# Altium integrated library National Semiconductor Audio.IntLib: 683 symbols (part 11 of 18)

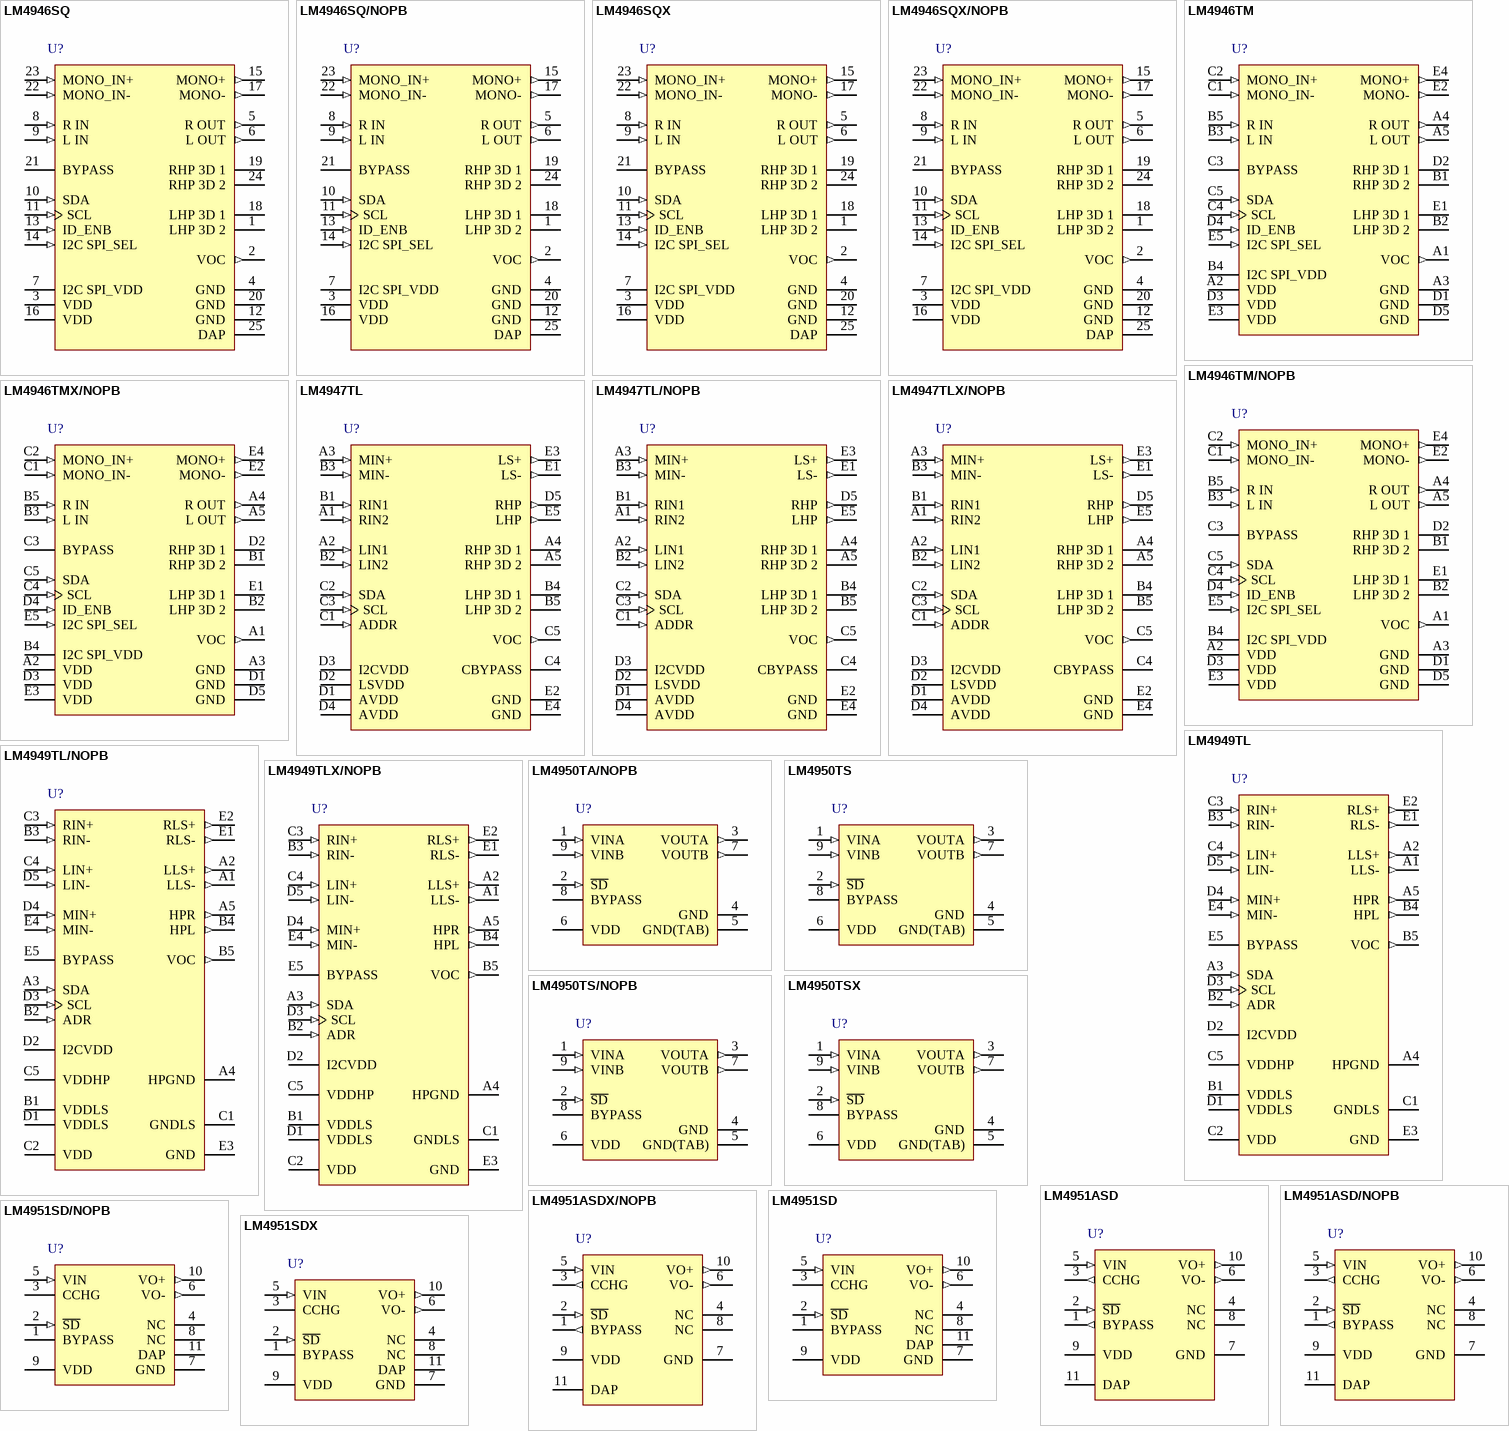
[diagram p15: symbols LM4946SQ to LM4951SDX]

## LM4946SQ
designator U?
Output Capacitor-Less Audio Subsystem with Programmable National 3D, 25-pin LLP; PartNumber: LM4946SQ; Manufacturer: National Semiconductor; PackageTopMarking: NS*UZXYTT*L4946SQ; PowerWise: N; CompType: Audio IC; High-Reliability: Y; DatasheetVersion: Aug-2007; PackageVersion: revB, Aug-2003; PackageReference: SQA24A; PackageDescription: LLP, Plastic, Quad, 4 x 4 x 0.8mm Body, 24 Lead, 0.5mm Pitch, No Pullback; RoHS: N; PinCount: 24; Code_JEDEC: MO-220-WGGD-6; ComponentLink1Description: Manufacturer URL; ComponentLink1URL: http://www.national.com/; ComponentLink2Description: LM4946 Datasheet; ComponentLink2URL: http://www.national.com/ds/LM/LM4946.pdf; ComponentLink3Description: LM4946 Web Page; ComponentLink3URL: http://www.national.com/pf/LM/LM4946.html; ComponentLink4Description: SQA24A Package Page; ComponentLink4URL: http://www.national.com/packaging/folders/sqa24a.html
footprint SQA24A (QFN, 24-Leads, Body 4x4mm, Pitch 0.5mm, Thermal Pad 2.7x2.7mm, NSC Recommended)
pins: 1 LHP 3D 2, 2 VOC (out), 3 VDD (power), 4 GND (power), 5 R OUT (out), 6 L OUT (out), 7 I2C SPI_VDD (power), 8 R IN (in), 9 L IN (in), 10 SDA (in), 11 SCL (in), 12 GND (power), 13 ID_ENB (in), 14 I2C SPI_SEL (in), 15 MONO+ (out), 16 VDD (power), 17 MONO- (out), 18 LHP 3D 1, 19 RHP 3D 1, 20 GND (power), 21 BYPASS, 22 MONO_IN- (in), 23 MONO_IN+ (in), 24 RHP 3D 2, 25 DAP (power)

## LM4946SQ/NOPB
designator U?
Output Capacitor-Less Audio Subsystem with Programmable National 3D, 24-pin LLP, Pb-Free; PartNumber: LM4946SQ/NOPB; Manufacturer: National Semiconductor; PackageTopMarking: NS*UZXYTT*L4946SQ; PowerWise: N; CompType: Audio IC; High-Reliability: Y; DatasheetVersion: Aug-2007; PackageVersion: revB, Aug-2003; PackageReference: SQA24A; PackageDescription: LLP, Plastic, Quad, 4 x 4 x 0.8mm Body, 24 Lead, 0.5mm Pitch, No Pullback; RoHS: Y; PinCount: 24; Code_JEDEC: MO-220-WGGD-6; ComponentLink1Description: Manufacturer URL; ComponentLink1URL: http://www.national.com/; ComponentLink2Description: LM4946 Datasheet; ComponentLink2URL: http://www.national.com/ds/LM/LM4946.pdf; ComponentLink3Description: LM4946 Web Page; ComponentLink3URL: http://www.national.com/pf/LM/LM4946.html; ComponentLink4Description: SQA24A Package Page; ComponentLink4URL: http://www.national.com/packaging/folders/sqa24a.html
footprint SQA24A (QFN, 24-Leads, Body 4x4mm, Pitch 0.5mm, Thermal Pad 2.7x2.7mm, NSC Recommended)
pins: 1 LHP 3D 2, 2 VOC (out), 3 VDD (power), 4 GND (power), 5 R OUT (out), 6 L OUT (out), 7 I2C SPI_VDD (power), 8 R IN (in), 9 L IN (in), 10 SDA (in), 11 SCL (in), 12 GND (power), 13 ID_ENB (in), 14 I2C SPI_SEL (in), 15 MONO+ (out), 16 VDD (power), 17 MONO- (out), 18 LHP 3D 1, 19 RHP 3D 1, 20 GND (power), 21 BYPASS, 22 MONO_IN- (in), 23 MONO_IN+ (in), 24 RHP 3D 2, 25 DAP (power)

## LM4946SQX
designator U?
Output Capacitor-Less Audio Subsystem with Programmable National 3D, 24-pin LLP; PartNumber: LM4946SQX; Manufacturer: National Semiconductor; PackageTopMarking: NS*UZXYTT*L4946SQ; PowerWise: N; CompType: Audio IC; High-Reliability: Y; DatasheetVersion: Aug-2007; PackageVersion: revB, Aug-2003; PackageReference: SQA24A; PackageDescription: LLP, Plastic, Quad, 4 x 4 x 0.8mm Body, 24 Lead, 0.5mm Pitch, No Pullback; RoHS: N; PinCount: 24; Code_JEDEC: MO-220-WGGD-6; ComponentLink1Description: Manufacturer URL; ComponentLink1URL: http://www.national.com/; ComponentLink2Description: LM4946 Datasheet; ComponentLink2URL: http://www.national.com/ds/LM/LM4946.pdf; ComponentLink3Description: LM4946 Web Page; ComponentLink3URL: http://www.national.com/pf/LM/LM4946.html; ComponentLink4Description: SQA24A Package Page; ComponentLink4URL: http://www.national.com/packaging/folders/sqa24a.html
footprint SQA24A (QFN, 24-Leads, Body 4x4mm, Pitch 0.5mm, Thermal Pad 2.7x2.7mm, NSC Recommended)
pins: 1 LHP 3D 2, 2 VOC (out), 3 VDD (power), 4 GND (power), 5 R OUT (out), 6 L OUT (out), 7 I2C SPI_VDD (power), 8 R IN (in), 9 L IN (in), 10 SDA (in), 11 SCL (in), 12 GND (power), 13 ID_ENB (in), 14 I2C SPI_SEL (in), 15 MONO+ (out), 16 VDD (power), 17 MONO- (out), 18 LHP 3D 1, 19 RHP 3D 1, 20 GND (power), 21 BYPASS, 22 MONO_IN- (in), 23 MONO_IN+ (in), 24 RHP 3D 2, 25 DAP (power)

## LM4946SQX/NOPB
designator U?
Output Capacitor-Less Audio Subsystem with Programmable National 3D, 24-pin LLP, Pb-Free; PartNumber: LM4946SQX/NOPB; Manufacturer: National Semiconductor; PackageTopMarking: NS*UZXYTT*L4946SQ; PowerWise: N; CompType: Audio IC; High-Reliability: Y; DatasheetVersion: Aug-2007; PackageVersion: revB, Aug-2003; PackageReference: SQA24A; PackageDescription: LLP, Plastic, Quad, 4 x 4 x 0.8mm Body, 24 Lead, 0.5mm Pitch, No Pullback; RoHS: Y; PinCount: 24; Code_JEDEC: MO-220-WGGD-6; ComponentLink1Description: Manufacturer URL; ComponentLink1URL: http://www.national.com/; ComponentLink2Description: LM4946 Datasheet; ComponentLink2URL: http://www.national.com/ds/LM/LM4946.pdf; ComponentLink3Description: LM4946 Web Page; ComponentLink3URL: http://www.national.com/pf/LM/LM4946.html; ComponentLink4Description: SQA24A Package Page; ComponentLink4URL: http://www.national.com/packaging/folders/sqa24a.html
footprint SQA24A (QFN, 24-Leads, Body 4x4mm, Pitch 0.5mm, Thermal Pad 2.7x2.7mm, NSC Recommended)
pins: 1 LHP 3D 2, 2 VOC (out), 3 VDD (power), 4 GND (power), 5 R OUT (out), 6 L OUT (out), 7 I2C SPI_VDD (power), 8 R IN (in), 9 L IN (in), 10 SDA (in), 11 SCL (in), 12 GND (power), 13 ID_ENB (in), 14 I2C SPI_SEL (in), 15 MONO+ (out), 16 VDD (power), 17 MONO- (out), 18 LHP 3D 1, 19 RHP 3D 1, 20 GND (power), 21 BYPASS, 22 MONO_IN- (in), 23 MONO_IN+ (in), 24 RHP 3D 2, 25 DAP (power)

## LM4946TM
designator U?
Output Capacitor-Less Audio Subsystem with Programmable National 3D, 25-pin Micro SMD; PartNumber: LM4946TM; Manufacturer: National Semiconductor; PackageTopMarking: XYTT*I GI9; PowerWise: N; CompType: Audio IC; High-Reliability: Y; DatasheetVersion: Aug-2007; PackageVersion: revC, 2007; PackageReference: TMD25ABA; PackageDescription: Thin Micro SMD, 25 Bump, 0.4mm Pitch; RoHS: Y; PinCount: 25; ComponentLink1Description: Manufacturer URL; ComponentLink1URL: http://www.national.com/; ComponentLink2Description: LM4946 Datasheet; ComponentLink2URL: http://www.national.com/ds/LM/LM4946.pdf; ComponentLink3Description: LM4946 Web Page; ComponentLink3URL: http://www.national.com/pf/LM/LM4946.html
footprint TMD25ABA (Micro SMD, 25-Leads, Body 2.05x2.02mm, Pitch 0.4mm, NSC Recommended)
pins: A1 VOC (out), A2 VDD (power), A3 GND (power), A4 R OUT (out), A5 L OUT (out), B1 RHP 3D 2, B2 LHP 3D 2, B3 L IN (in), B4 I2C SPI_VDD (power), B5 R IN (in), C1 MONO_IN- (in), C2 MONO_IN+ (in), C3 BYPASS, C4 SCL (in), C5 SDA (in), D1 GND (power), D2 RHP 3D 1, D3 VDD (power), D4 ID_ENB (in), D5 GND (power), E1 LHP 3D 1, E2 MONO- (out), E3 VDD (power), E4 MONO+ (out), E5 I2C SPI_SEL (in)

## LM4946TM/NOPB
designator U?
Output Capacitor-Less Audio Subsystem with Programmable National 3D, 25-pin Micro SMD, Pb-Free; PartNumber: LM4946TM/NOPB; Manufacturer: National Semiconductor; PackageTopMarking: XYTT*I GI9; PowerWise: N; CompType: Audio IC; High-Reliability: Y; DatasheetVersion: Aug-2007; PackageVersion: revC, 2007; PackageReference: TMD25ABA; PackageDescription: Thin Micro SMD, 25 Bump, 0.4mm Pitch; RoHS: Y; PinCount: 25; ComponentLink1Description: Manufacturer URL; ComponentLink1URL: http://www.national.com/; ComponentLink2Description: LM4946 Datasheet; ComponentLink2URL: http://www.national.com/ds/LM/LM4946.pdf; ComponentLink3Description: LM4946 Web Page; ComponentLink3URL: http://www.national.com/pf/LM/LM4946.html; ComponentLink4Description: TMD25ABA Package Page; ComponentLink4URL: http://www.national.com/packaging/folders/tmd25aba.html
footprint TMD25ABA (Micro SMD, 25-Leads, Body 2.05x2.02mm, Pitch 0.4mm, NSC Recommended)
pins: A1 VOC (out), A2 VDD (power), A3 GND (power), A4 R OUT (out), A5 L OUT (out), B1 RHP 3D 2, B2 LHP 3D 2, B3 L IN (in), B4 I2C SPI_VDD (power), B5 R IN (in), C1 MONO_IN- (in), C2 MONO_IN+ (in), C3 BYPASS, C4 SCL (in), C5 SDA (in), D1 GND (power), D2 RHP 3D 1, D3 VDD (power), D4 ID_ENB (in), D5 GND (power), E1 LHP 3D 1, E2 MONO- (out), E3 VDD (power), E4 MONO+ (out), E5 I2C SPI_SEL (in)

## LM4946TMX/NOPB
designator U?
Output Capacitor-Less Audio Subsystem with Programmable National 3D, 25-pin Micro SMD, Pb-Free; PartNumber: LM4946TMX/NOPB; Manufacturer: National Semiconductor; PackageTopMarking: XYTT*I GI9; PowerWise: N; CompType: Audio IC; High-Reliability: Y; DatasheetVersion: Aug-2007; PackageVersion: revC, 2007; PackageReference: TMD25ABA; PackageDescription: Thin Micro SMD, 25 Bump, 0.4mm Pitch; RoHS: Y; PinCount: 25; ComponentLink1Description: Manufacturer URL; ComponentLink1URL: http://www.national.com/; ComponentLink2Description: LM4946 Datasheet; ComponentLink2URL: http://www.national.com/ds/LM/LM4946.pdf; ComponentLink3Description: LM4946 Web Page; ComponentLink3URL: http://www.national.com/pf/LM/LM4946.html; ComponentLink4Description: TMD25ABA Package Page; ComponentLink4URL: http://www.national.com/packaging/folders/tmd25aba.html
footprint TMD25ABA (Micro SMD, 25-Leads, Body 2.05x2.02mm, Pitch 0.4mm, NSC Recommended)
pins: A1 VOC (out), A2 VDD (power), A3 GND (power), A4 R OUT (out), A5 L OUT (out), B1 RHP 3D 2, B2 LHP 3D 2, B3 L IN (in), B4 I2C SPI_VDD (power), B5 R IN (in), C1 MONO_IN- (in), C2 MONO_IN+ (in), C3 BYPASS, C4 SCL (in), C5 SDA (in), D1 GND (power), D2 RHP 3D 1, D3 VDD (power), D4 ID_ENB (in), D5 GND (power), E1 LHP 3D 1, E2 MONO- (out), E3 VDD (power), E4 MONO+ (out), E5 I2C SPI_SEL (in)

## LM4947TL
designator U?
Mono Class D and Stereo Audio Sub-System with OCL Headphone Amplifier and National 3D, 25-pin Micro SMD; PartNumber: LM4947TL; Manufacturer: National Semiconductor; PackageTopMarking: XYTT*I GH1; PowerWise: N; CompType: Audio IC; High-Reliability: Y; DatasheetVersion: Nov-2007; PackageVersion: revD, Dec-2003; PackageReference: TLA25BBA; PackageDescription: Thin Micro SMD, 25 Bump (Large), 0.5mm Pitch; RoHS: Y; PinCount: 25; Code_JEDEC: MO-211-DH; ComponentLink1Description: Manufacturer URL; ComponentLink1URL: http://www.national.com/; ComponentLink2Description: LM4947 Datasheet; ComponentLink2URL: http://www.national.com/ds/LM/LM4947.pdf; ComponentLink3Description: LM4947 Web Page; ComponentLink3URL: http://www.national.com/pf/LM/LM4947.html; ComponentLink4Description: TLA25BBA Package Page; ComponentLink4URL: http://www.national.com/packaging/folders/tla25bba.html
footprint TLA25BBA (Micro SMD, 25-Leads, Body 2.52x2.52mm, Pitch 0.5mm, NSC Recommended)
pins: A1 RIN2 (in), A2 LIN1 (in), A3 MIN+ (in), A4 RHP 3D 1, A5 RHP 3D 2, B1 RIN1 (in), B2 LIN2 (in), B3 MIN- (in), B4 LHP 3D 1, B5 LHP 3D 2, C1 ADDR (in), C2 SDA (in), C3 SCL (in), C4 CBYPASS, C5 VOC (out), D1 AVDD (power), D2 LSVDD (power), D3 I2CVDD (power), D4 AVDD (power), D5 RHP (out), E1 LS- (out), E2 GND (power), E3 LS+ (out), E4 GND (power), E5 LHP (out)

## LM4947TL/NOPB
designator U?
Mono Class D and Stereo Audio Sub-System with OCL Headphone Amplifier and National 3D, 25-pin Micro SMD, Pb-Free; PartNumber: LM4947TL/NOPB; Manufacturer: National Semiconductor; PackageTopMarking: XYTT*I GH1; PowerWise: N; CompType: Audio IC; High-Reliability: Y; DatasheetVersion: Nov-2007; PackageVersion: revD, Dec-2003; PackageReference: TLA25BBA; PackageDescription: Thin Micro SMD, 25 Bump (Large), 0.5mm Pitch; RoHS: Y; PinCount: 25; Code_JEDEC: MO-211-DH; ComponentLink1Description: Manufacturer URL; ComponentLink1URL: http://www.national.com/; ComponentLink2Description: LM4947 Datasheet; ComponentLink2URL: http://www.national.com/ds/LM/LM4947.pdf; ComponentLink3Description: LM4947 Web Page; ComponentLink3URL: http://www.national.com/pf/LM/LM4947.html; ComponentLink4Description: TLA25BBA Package Page; ComponentLink4URL: http://www.national.com/packaging/folders/tla25bba.html
footprint TLA25BBA (Micro SMD, 25-Leads, Body 2.52x2.52mm, Pitch 0.5mm, NSC Recommended)
pins: A1 RIN2 (in), A2 LIN1 (in), A3 MIN+ (in), A4 RHP 3D 1, A5 RHP 3D 2, B1 RIN1 (in), B2 LIN2 (in), B3 MIN- (in), B4 LHP 3D 1, B5 LHP 3D 2, C1 ADDR (in), C2 SDA (in), C3 SCL (in), C4 CBYPASS, C5 VOC (out), D1 AVDD (power), D2 LSVDD (power), D3 I2CVDD (power), D4 AVDD (power), D5 RHP (out), E1 LS- (out), E2 GND (power), E3 LS+ (out), E4 GND (power), E5 LHP (out)

## LM4947TLX/NOPB
designator U?
Mono Class D and Stereo Audio Sub-System with OCL Headphone Amplifier and National 3D, 25-pin Micro SMD, Pb-Free; PartNumber: LM4947TLX/NOPB; Manufacturer: National Semiconductor; PackageTopMarking: XYTT*I GH1; PowerWise: N; CompType: Audio IC; High-Reliability: Y; DatasheetVersion: Nov-2007; PackageVersion: revD, Dec-2003; PackageReference: TLA25BBA; PackageDescription: Thin Micro SMD, 25 Bump (Large), 0.5mm Pitch; RoHS: Y; PinCount: 25; Code_JEDEC: MO-211-DH; ComponentLink1Description: Manufacturer URL; ComponentLink1URL: http://www.national.com/; ComponentLink2Description: LM4947 Datasheet; ComponentLink2URL: http://www.national.com/ds/LM/LM4947.pdf; ComponentLink3Description: LM4947 Web Page; ComponentLink3URL: http://www.national.com/pf/LM/LM4947.html; ComponentLink4Description: TLA25BBA Package Page; ComponentLink4URL: http://www.national.com/packaging/folders/tla25bba.html
footprint TLA25BBA (Micro SMD, 25-Leads, Body 2.52x2.52mm, Pitch 0.5mm, NSC Recommended)
pins: A1 RIN2 (in), A2 LIN1 (in), A3 MIN+ (in), A4 RHP 3D 1, A5 RHP 3D 2, B1 RIN1 (in), B2 LIN2 (in), B3 MIN- (in), B4 LHP 3D 1, B5 LHP 3D 2, C1 ADDR (in), C2 SDA (in), C3 SCL (in), C4 CBYPASS, C5 VOC (out), D1 AVDD (power), D2 LSVDD (power), D3 I2CVDD (power), D4 AVDD (power), D5 RHP (out), E1 LS- (out), E2 GND (power), E3 LS+ (out), E4 GND (power), E5 LHP (out)

## LM4949TL
designator U?
Stereo Class D Audio Subsystem with OCL Headphone Amplifier, 25-pin Micro SMD; PartNumber: LM4949TL; Manufacturer: National Semiconductor; PackageTopMarking: XYTT*I GH3; PowerWise: N; CompType: Audio IC; High-Reliability: Y; DatasheetVersion: Jan-2007; PackageVersion: revD, Oct-2003; PackageReference: TLA25JJA; PackageDescription: 25-Ball Thin Micro SMD, 2.69 x 2.69 x 0.6mm Body, 0.5 mm Pitch; RoHS: Y; PinCount: 25; Code_JEDEC: MO-211-DH; ComponentLink1Description: Manufacturer URL; ComponentLink1URL: http://www.national.com/; ComponentLink2Description: LM4949 Datasheet; ComponentLink2URL: http://www.national.com/ds/LM/LM4949.pdf; ComponentLink3Description: LM4949 Web Page; ComponentLink3URL: http://www.national.com/pf/LM/LM4949.html; ComponentLink4Description: TLA25JJA Package Page; ComponentLink4URL: http://www.national.com/packaging/folders/tla25jja.html
footprint TLA25JJA (BGA, 25-Leads, Body 2.69x2.69mm, Pitch 0.5mm)
pins: A1 LLS- (out), A2 LLS+ (out), A3 SDA (in), A4 HPGND (power), A5 HPR (out), B1 VDDLS (power), B2 ADR (in), B3 RIN- (in), B4 HPL (out), B5 VOC (out), C1 GNDLS (power), C2 VDD (power), C3 RIN+ (in), C4 LIN+ (in), C5 VDDHP (power), D1 VDDLS (power), D2 I2CVDD (power), D3 SCL (in), D4 MIN+ (in), D5 LIN- (in), E1 RLS- (out), E2 RLS+ (out), E3 GND (power), E4 MIN- (in), E5 BYPASS

## LM4949TL/NOPB
designator U?
Stereo Class D Audio Subsystem with OCL Headphone Amplifier, 25-pin Micro SMD, Pb-Free; PartNumber: LM4949TL/NOPB; Manufacturer: National Semiconductor; PackageTopMarking: XYTT*I GH3; PowerWise: N; CompType: Audio IC; High-Reliability: Y; DatasheetVersion: Jan-2007; PackageVersion: revD, Oct-2003; PackageReference: TLA25JJA; PackageDescription: 25-Ball Thin Micro SMD, 2.69 x 2.69 x 0.6mm Body, 0.5 mm Pitch; RoHS: Y; PinCount: 25; Code_JEDEC: MO-211-DH; ComponentLink1Description: Manufacturer URL; ComponentLink1URL: http://www.national.com/; ComponentLink2Description: LM4949 Datasheet; ComponentLink2URL: http://www.national.com/ds/LM/LM4949.pdf; ComponentLink3Description: LM4949 Web Page; ComponentLink3URL: http://www.national.com/pf/LM/LM4949.html; ComponentLink4Description: TLA25JJA Package Page; ComponentLink4URL: http://www.national.com/packaging/folders/tla25jja.html
footprint TLA25JJA (BGA, 25-Leads, Body 2.69x2.69mm, Pitch 0.5mm)
pins: A1 LLS- (out), A2 LLS+ (out), A3 SDA (in), A4 HPGND (power), A5 HPR (out), B1 VDDLS (power), B2 ADR (in), B3 RIN- (in), B4 HPL (out), B5 VOC (out), C1 GNDLS (power), C2 VDD (power), C3 RIN+ (in), C4 LIN+ (in), C5 VDDHP (power), D1 VDDLS (power), D2 I2CVDD (power), D3 SCL (in), D4 MIN+ (in), D5 LIN- (in), E1 RLS- (out), E2 RLS+ (out), E3 GND (power), E4 MIN- (in), E5 BYPASS

## LM4949TLX/NOPB
designator U?
Stereo Class D Audio Subsystem with OCL Headphone Amplifier, 25-pin Micro SMD, Pb-Free; PartNumber: LM4949TLX/NOPB; Manufacturer: National Semiconductor; PackageTopMarking: XYTT*I GH3; PowerWise: N; CompType: Audio IC; High-Reliability: Y; DatasheetVersion: Jan-2007; PackageVersion: revD, Oct-2003; PackageReference: TLA25JJA; PackageDescription: 25-Ball Thin Micro SMD, 2.69 x 2.69 x 0.6mm Body, 0.5 mm Pitch; RoHS: Y; PinCount: 25; Code_JEDEC: MO-211-DH; ComponentLink1Description: Manufacturer URL; ComponentLink1URL: http://www.national.com/; ComponentLink2Description: LM4949 Datasheet; ComponentLink2URL: http://www.national.com/ds/LM/LM4949.pdf; ComponentLink3Description: LM4949 Web Page; ComponentLink3URL: http://www.national.com/pf/LM/LM4949.html; ComponentLink4Description: TLA25JJA Package Page; ComponentLink4URL: http://www.national.com/packaging/folders/tla25jja.html
footprint TLA25JJA (BGA, 25-Leads, Body 2.69x2.69mm, Pitch 0.5mm)
pins: A1 LLS- (out), A2 LLS+ (out), A3 SDA (in), A4 HPGND (power), A5 HPR (out), B1 VDDLS (power), B2 ADR (in), B3 RIN- (in), B4 HPL (out), B5 VOC (out), C1 GNDLS (power), C2 VDD (power), C3 RIN+ (in), C4 LIN+ (in), C5 VDDHP (power), D1 VDDLS (power), D2 I2CVDD (power), D3 SCL (in), D4 MIN+ (in), D5 LIN- (in), E1 RLS- (out), E2 RLS+ (out), E3 GND (power), E4 MIN- (in), E5 BYPASS

## LM4950TA/NOPB
designator U?
7.5W Mono-BTL or 3.1W Stereo Audio Power Amplifier, 9-pin TO-220, Pb-Free; PartNumber: LM4950TA/NOPB; Manufacturer: National Semiconductor; PackageTopMarking: NSUZXYTTE#*L4950TA; PowerWise: N; CompType: Audio IC; High-Reliability: Y; DatasheetVersion: Aug-2004; PackageVersion: revC, Jul-1999; PackageReference: TA09A; PackageDescription: TO-220, Molded, 9 Lead, Staggered; RoHS: Y; PinCount: 9; ComponentLink1Description: Manufacturer URL; ComponentLink1URL: http://www.national.com/; ComponentLink2Description: LM4950 Datasheet; ComponentLink2URL: http://www.national.com/ds/LM/LM4950.pdf; ComponentLink3Description: LM4950 Web Page; ComponentLink3URL: http://www.national.com/pf/LM/LM4950.html; ComponentLink4Description: TA09A Package Page; ComponentLink4URL: http://www.national.com/packaging/folders/ta09a.html
footprint TA09A (TO, Thru-Hole, Vertical, Heatsink Mounted; 9 Bent Staggered Leads; Body 10.2x8.7x4.6mm, Pitch 0.97 mm)
pins: 1 VINA (in), 2 ~{SD} (in), 3 VOUTA (out), 4 GND (power), 5 GND(TAB) (power), 6 VDD (power), 7 VOUTB (out), 8 BYPASS, 9 VINB (in)

## LM4950TS
designator U?
7.5W Mono-BTL or 3.1W Stereo Audio Power Amplifier, 9-pin TO-263; PartNumber: LM4950TS; Manufacturer: National Semiconductor; PackageTopMarking: NSUZXYTTE#*L4950TS; PowerWise: N; CompType: Audio IC; High-Reliability: Y; DatasheetVersion: Aug-2004; PackageVersion: revB, Dec-2004; PackageReference: TS9A; PackageDescription: TO-263, Molded, 9 Lead, Surface Mount; RoHS: N; PinCount: 9; ComponentLink1Description: Manufacturer URL; ComponentLink1URL: http://www.national.com/; ComponentLink2Description: LM4950 Datasheet; ComponentLink2URL: http://www.national.com/ds/LM/LM4950.pdf; ComponentLink3Description: LM4950 Web Page; ComponentLink3URL: http://www.national.com/pf/LM/LM4950.html; ComponentLink4Description: TS9A Package Page; ComponentLink4URL: http://www.national.com/packaging/folders/ts9a.html
footprint TS9A_N (D2-PAK, 10-Leads, Body 8.7x10.2mm, Pitch 0.97mm, Lead Span 14.1mm, IPC Medium Density)
footprint TS9A_L (D2-PAK, 10-Leads, Body 8.7x10.2mm, Pitch 0.97mm, Lead Span 14.1mm, IPC High Density)
footprint TS9A_M (D2-PAK, 10-Leads, Body 8.7x10.2mm, Pitch 0.97mm, Lead Span 14.1mm, IPC Low Density)
pins: 1 VINA (in), 2 ~{SD} (in), 3 VOUTA (out), 4 GND (power), 5 GND(TAB) (power), 6 VDD (power), 7 VOUTB (out), 8 BYPASS, 9 VINB (in)

## LM4950TS/NOPB
designator U?
7.5W Mono-BTL or 3.1W Stereo Audio Power Amplifier, 9-pin TO-263, Pb-Free; PartNumber: LM4950TS/NOPB; Manufacturer: National Semiconductor; PackageTopMarking: NSUZXYTTE#*L4950TS; PowerWise: N; CompType: Audio IC; High-Reliability: Y; DatasheetVersion: Aug-2004; PackageVersion: revB, Dec-2004; PackageReference: TS9A; PackageDescription: TO-263, Molded, 9 Lead, Surface Mount; RoHS: Y; PinCount: 9; ComponentLink1Description: Manufacturer URL; ComponentLink1URL: http://www.national.com/; ComponentLink2Description: LM4950 Datasheet; ComponentLink2URL: http://www.national.com/ds/LM/LM4950.pdf; ComponentLink3Description: LM4950 Web Page; ComponentLink3URL: http://www.national.com/pf/LM/LM4950.html; ComponentLink4Description: TS9A Package Page; ComponentLink4URL: http://www.national.com/packaging/folders/ts9a.html
footprint TS9A_N (D2-PAK, 10-Leads, Body 8.7x10.2mm, Pitch 0.97mm, Lead Span 14.1mm, IPC Medium Density)
footprint TS9A_L (D2-PAK, 10-Leads, Body 8.7x10.2mm, Pitch 0.97mm, Lead Span 14.1mm, IPC High Density)
footprint TS9A_M (D2-PAK, 10-Leads, Body 8.7x10.2mm, Pitch 0.97mm, Lead Span 14.1mm, IPC Low Density)
pins: 1 VINA (in), 2 ~{SD} (in), 3 VOUTA (out), 4 GND (power), 5 GND(TAB) (power), 6 VDD (power), 7 VOUTB (out), 8 BYPASS, 9 VINB (in)

## LM4950TSX
designator U?
7.5W Mono-BTL or 3.1W Stereo Audio Power Amplifier, 9-pin TO-263; PartNumber: LM4950TSX; Manufacturer: National Semiconductor; PackageTopMarking: NSUZXYTTE#*L4950TS; PowerWise: N; CompType: Audio IC; High-Reliability: Y; DatasheetVersion: Aug-2004; PackageVersion: revB, Dec-2004; PackageReference: TS9A; PackageDescription: TO-263, Molded, 9 Lead, Surface Mount; RoHS: N; PinCount: 9; ComponentLink1Description: Manufacturer URL; ComponentLink1URL: http://www.national.com/; ComponentLink2Description: LM4950 Datasheet; ComponentLink2URL: http://www.national.com/ds/LM/LM4950.pdf; ComponentLink3Description: LM4950 Web Page; ComponentLink3URL: http://www.national.com/pf/LM/LM4950.html; ComponentLink4Description: TS9A Package Page; ComponentLink4URL: http://www.national.com/packaging/folders/ts9a.html
footprint TS9A_N (D2-PAK, 10-Leads, Body 8.7x10.2mm, Pitch 0.97mm, Lead Span 14.1mm, IPC Medium Density)
footprint TS9A_L (D2-PAK, 10-Leads, Body 8.7x10.2mm, Pitch 0.97mm, Lead Span 14.1mm, IPC High Density)
footprint TS9A_M (D2-PAK, 10-Leads, Body 8.7x10.2mm, Pitch 0.97mm, Lead Span 14.1mm, IPC Low Density)
pins: 1 VINA (in), 2 ~{SD} (in), 3 VOUTA (out), 4 GND (power), 5 GND(TAB) (power), 6 VDD (power), 7 VOUTB (out), 8 BYPASS, 9 VINB (in)

## LM4951ASD
designator U?
Wide Voltage Range 1.8 Watt Audio Power Amplifier With Short Circuit Protection, 11-pin LLP; PartNumber: LM4951ASD; Manufacturer: National Semiconductor; PackageTopMarking: NS*UZXYTT*4951ASD; PowerWise: N; CompType: Audio IC; High-Reliability: Y; DatasheetVersion: Sep-2008; PackageVersion: revA, May-2003; PackageReference: SDC10A; PackageDescription: LLP, Plastic, Dual, 4 x 4 x 0.8mm Body, 10 Lead, 0.8mm Pitch, No Pullback; RoHS: Y; PinCount: 10; ComponentLink1Description: Manufacturer URL; ComponentLink1URL: http://www.national.com/; ComponentLink2Description: LM4951A Datasheet; ComponentLink2URL: http://www.national.com/ds/LM/LM4951A.pdf; ComponentLink3Description: LM4951A Web Page; ComponentLink3URL: http://www.national.com/pf/LM/LM4951A.html; ComponentLink4Description: SDC10A Package Page; ComponentLink4URL: http://www.national.com/packaging/folders/sdc10a.html
footprint SDC10A (SON, 10-Leads, Body 4x4 mm, Pitch 0.8mm, NSC Recommended)
pins: 1 BYPASS (out), 2 ~{SD} (in), 3 CCHG (out), 4 NC, 5 VIN (in), 6 VO- (out), 7 GND (power), 8 NC, 9 VDD (power), 10 VO+ (out), 11 DAP

## LM4951ASD/NOPB
designator U?
Wide Voltage Range 1.8 Watt Audio Power Amplifier With Short Circuit Protection, 10-pin LLP, Pb-Free; PartNumber: LM4951ASD/NOPB; Manufacturer: National Semiconductor; PackageTopMarking: NS*UZXYTT*4951ASD; PowerWise: N; CompType: Audio IC; High-Reliability: Y; DatasheetVersion: Sep-2008; PackageVersion: revA, May-2003; PackageReference: SDC10A; PackageDescription: LLP, Plastic, Dual, 4 x 4 x 0.8mm Body, 10 Lead, 0.8mm Pitch, No Pullback; RoHS: Y; PinCount: 10; ComponentLink1Description: Manufacturer URL; ComponentLink1URL: http://www.national.com/; ComponentLink2Description: LM4951A Datasheet; ComponentLink2URL: http://www.national.com/ds/LM/LM4951A.pdf; ComponentLink3Description: LM4951A Web Page; ComponentLink3URL: http://www.national.com/pf/LM/LM4951A.html; ComponentLink4Description: SDC10A Package Page; ComponentLink4URL: http://www.national.com/packaging/folders/sdc10a.html
footprint SDC10A (SON, 10-Leads, Body 4x4 mm, Pitch 0.8mm, NSC Recommended)
pins: 1 BYPASS (out), 2 ~{SD} (in), 3 CCHG (out), 4 NC, 5 VIN (in), 6 VO- (out), 7 GND (power), 8 NC, 9 VDD (power), 10 VO+ (out), 11 DAP

## LM4951ASDX/NOPB
designator U?
Wide Voltage Range 1.8 Watt Audio Power Amplifier With Short Circuit Protection, 10-pin LLP, Pb-Free; PartNumber: LM4951ASDX/NOPB; Manufacturer: National Semiconductor; PackageTopMarking: NS*UZXYTT*4951ASD; PowerWise: N; CompType: Audio IC; High-Reliability: Y; DatasheetVersion: Sep-2008; PackageVersion: revA, May-2003; PackageReference: SDC10A; PackageDescription: LLP, Plastic, Dual, 4 x 4 x 0.8mm Body, 10 Lead, 0.8mm Pitch, No Pullback; RoHS: Y; PinCount: 10; ComponentLink1Description: Manufacturer URL; ComponentLink1URL: http://www.national.com/; ComponentLink2Description: LM4951A Datasheet; ComponentLink2URL: http://www.national.com/ds/LM/LM4951A.pdf; ComponentLink3Description: LM4951A Web Page; ComponentLink3URL: http://www.national.com/pf/LM/LM4951A.html; ComponentLink4Description: SDC10A Package Page; ComponentLink4URL: http://www.national.com/packaging/folders/sdc10a.html
footprint SDC10A (SON, 10-Leads, Body 4x4 mm, Pitch 0.8mm, NSC Recommended)
pins: 1 BYPASS (out), 2 ~{SD} (in), 3 CCHG (out), 4 NC, 5 VIN (in), 6 VO- (out), 7 GND (power), 8 NC, 9 VDD (power), 10 VO+ (out), 11 DAP

## LM4951SD
designator U?
Wide Voltage Range 1.8 Watt Audio Power Amplifier, 11-pin LLP; PartNumber: LM4951SD; Manufacturer: National Semiconductor; PackageTopMarking: NS*UZXYTT*L4951SD; PowerWise: N; CompType: Audio IC; High-Reliability: Y; DatasheetVersion: Mar-2009; PackageVersion: revA, May-2003; PackageReference: SDC10A; PackageDescription: LLP, Plastic, Dual, 4 x 4 x 0.8mm Body, 10 Lead, 0.8mm Pitch, No Pullback; RoHS: N; PinCount: 10; ComponentLink1Description: Manufacturer URL; ComponentLink1URL: http://www.national.com/; ComponentLink2Description: LM4951 Datasheet; ComponentLink2URL: http://www.national.com/ds/LM/LM4951.pdf; ComponentLink3Description: LM4951 Web Page; ComponentLink3URL: http://www.national.com/pf/LM/LM4951.html; ComponentLink4Description: SDC10A Package Page; ComponentLink4URL: http://www.national.com/packaging/folders/sdc10a.html
footprint SDC10A (SON, 10-Leads, Body 4x4 mm, Pitch 0.8mm, NSC Recommended)
pins: 1 BYPASS, 2 ~{SD} (in), 3 CCHG, 4 NC, 5 VIN (in), 6 VO- (out), 7 GND (power), 8 NC, 9 VDD (power), 10 VO+ (out), 11 DAP (power)

## LM4951SD/NOPB
designator U?
Wide Voltage Range 1.8 Watt Audio Power Amplifier, 10-pin LLP, Pb-Free; PartNumber: LM4951SD/NOPB; Manufacturer: National Semiconductor; PackageTopMarking: NS*UZXYTT*L4951SD; PowerWise: N; CompType: Audio IC; High-Reliability: Y; DatasheetVersion: Mar-2009; PackageVersion: revA, May-2003; PackageReference: SDC10A; PackageDescription: LLP, Plastic, Dual, 4 x 4 x 0.8mm Body, 10 Lead, 0.8mm Pitch, No Pullback; RoHS: Y; PinCount: 10; ComponentLink1Description: Manufacturer URL; ComponentLink1URL: http://www.national.com/; ComponentLink2Description: LM4951 Datasheet; ComponentLink2URL: http://www.national.com/ds/LM/LM4951.pdf; ComponentLink3Description: LM4951 Web Page; ComponentLink3URL: http://www.national.com/pf/LM/LM4951.html; ComponentLink4Description: SDC10A Package Page; ComponentLink4URL: http://www.national.com/packaging/folders/sdc10a.html
footprint SDC10A (SON, 10-Leads, Body 4x4 mm, Pitch 0.8mm, NSC Recommended)
pins: 1 BYPASS, 2 ~{SD} (in), 3 CCHG, 4 NC, 5 VIN (in), 6 VO- (out), 7 GND (power), 8 NC, 9 VDD (power), 10 VO+ (out), 11 DAP (power)

## LM4951SDX
designator U?
Wide Voltage Range 1.8 Watt Audio Power Amplifier, 10-pin LLP; PartNumber: LM4951SDX; Manufacturer: National Semiconductor; PackageTopMarking: NS*UZXYTT*L4951SD; PowerWise: N; CompType: Audio IC; High-Reliability: Y; DatasheetVersion: Mar-2009; PackageVersion: revA, May-2003; PackageReference: SDC10A; PackageDescription: LLP, Plastic, Dual, 4 x 4 x 0.8mm Body, 10 Lead, 0.8mm Pitch, No Pullback; RoHS: N; PinCount: 10; ComponentLink1Description: Manufacturer URL; ComponentLink1URL: http://www.national.com/; ComponentLink2Description: LM4951 Datasheet; ComponentLink2URL: http://www.national.com/ds/LM/LM4951.pdf; ComponentLink3Description: LM4951 Web Page; ComponentLink3URL: http://www.national.com/pf/LM/LM4951.html; ComponentLink4Description: SDC10A Package Page; ComponentLink4URL: http://www.national.com/packaging/folders/sdc10a.html
footprint SDC10A (SON, 10-Leads, Body 4x4 mm, Pitch 0.8mm, NSC Recommended)
pins: 1 BYPASS, 2 ~{SD} (in), 3 CCHG, 4 NC, 5 VIN (in), 6 VO- (out), 7 GND (power), 8 NC, 9 VDD (power), 10 VO+ (out), 11 DAP (power)

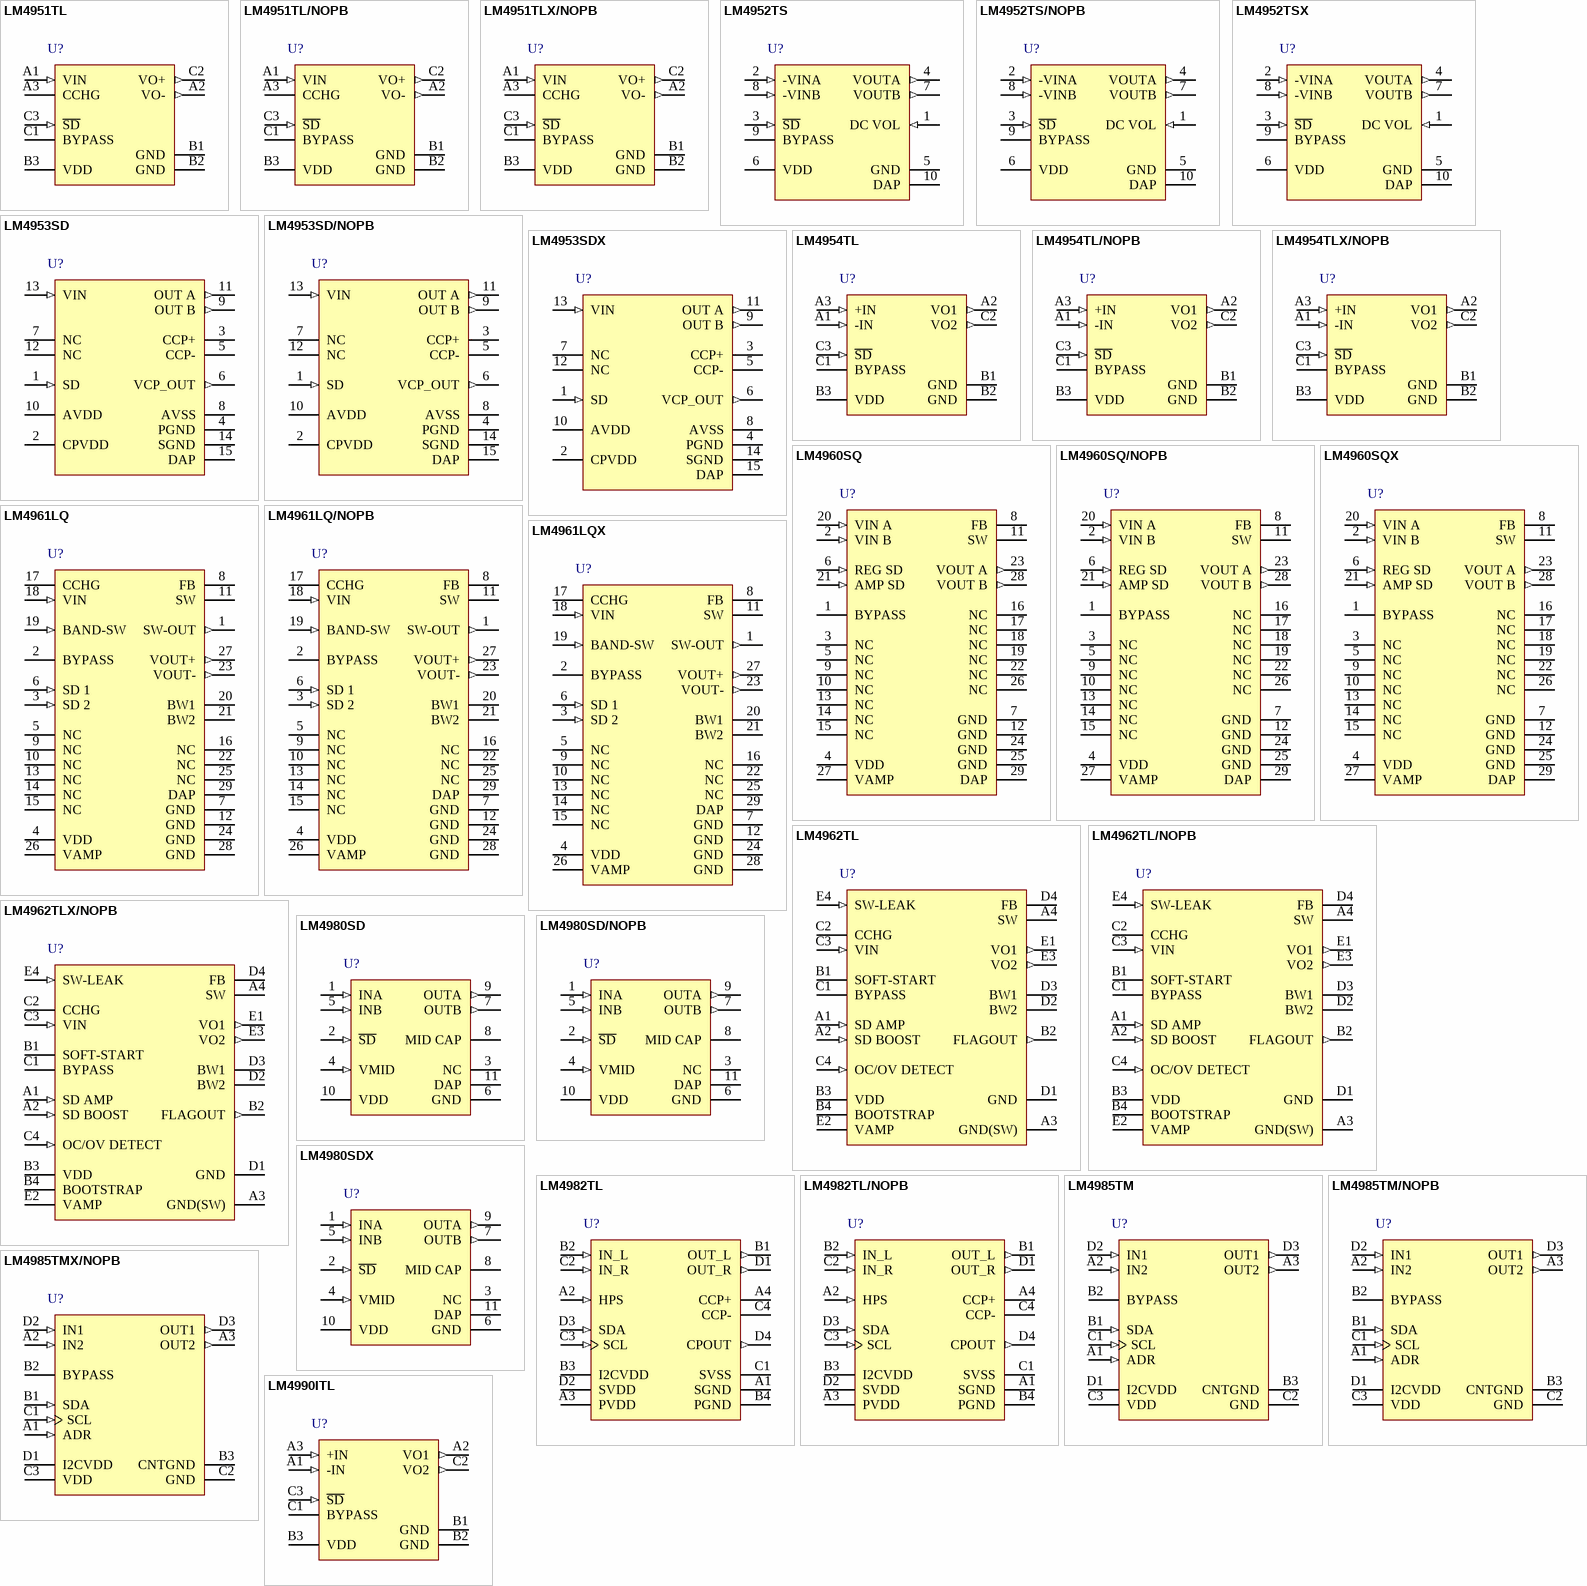
[diagram p16: symbols LM4951TL to LM4990ITL]

## LM4951TL
designator U?
Wide Voltage Range 1.8 Watt Audio Power Amplifier, 9-pin Micro SMD; PartNumber: LM4951TL; Manufacturer: National Semiconductor; PackageTopMarking: XVG*I F8; PowerWise: N; CompType: Audio IC; High-Reliability: Y; DatasheetVersion: Mar-2009; PackageVersion: revC, Jan-2004; PackageReference: TLA09ZZA; PackageDescription: Thin Micro SMD, 9 Bump (Large), 0.5mm Pitch; RoHS: Y; PinCount: 9; Code_JEDEC: MO-211-DD; ComponentLink1Description: Manufacturer URL; ComponentLink1URL: http://www.national.com/; ComponentLink2Description: LM4951 Datasheet; ComponentLink2URL: http://www.national.com/ds/LM/LM4951.pdf; ComponentLink3Description: LM4951 Web Page; ComponentLink3URL: http://www.national.com/pf/LM/LM4951.html; ComponentLink4Description: TLA09ZZA Package Page; ComponentLink4URL: http://www.national.com/packaging/folders/tla09zza.html
footprint TLA09ZZA (Micro SMD, 9-Leads, Body 1.47x1.47mm, Pitch 0.5mm, NSC Recommended)
pins: A1 VIN (in), A2 VO- (out), A3 CCHG, B1 GND (power), B2 GND (power), B3 VDD (power), C1 BYPASS, C2 VO+ (out), C3 ~{SD} (in)

## LM4951TL/NOPB
designator U?
Wide Voltage Range 1.8 Watt Audio Power Amplifier, 9-pin Micro SMD, Pb-Free; PartNumber: LM4951TL/NOPB; Manufacturer: National Semiconductor; PackageTopMarking: XVG*I F8; PowerWise: N; CompType: Audio IC; High-Reliability: Y; DatasheetVersion: Mar-2009; PackageVersion: revC, Jan-2004; PackageReference: TLA09ZZA; PackageDescription: Thin Micro SMD, 9 Bump (Large), 0.5mm Pitch; RoHS: Y; PinCount: 9; Code_JEDEC: MO-211-DD; ComponentLink1Description: Manufacturer URL; ComponentLink1URL: http://www.national.com/; ComponentLink2Description: LM4951 Datasheet; ComponentLink2URL: http://www.national.com/ds/LM/LM4951.pdf; ComponentLink3Description: LM4951 Web Page; ComponentLink3URL: http://www.national.com/pf/LM/LM4951.html; ComponentLink4Description: TLA09ZZA Package Page; ComponentLink4URL: http://www.national.com/packaging/folders/tla09zza.html
footprint TLA09ZZA (Micro SMD, 9-Leads, Body 1.47x1.47mm, Pitch 0.5mm, NSC Recommended)
pins: A1 VIN (in), A2 VO- (out), A3 CCHG, B1 GND (power), B2 GND (power), B3 VDD (power), C1 BYPASS, C2 VO+ (out), C3 ~{SD} (in)

## LM4951TLX/NOPB
designator U?
Wide Voltage Range 1.8 Watt Audio Power Amplifier, 9-pin Micro SMD, Pb-Free; PartNumber: LM4951TLX/NOPB; Manufacturer: National Semiconductor; PackageTopMarking: XVG*I F8; PowerWise: N; CompType: Audio IC; High-Reliability: Y; DatasheetVersion: Mar-2009; PackageVersion: revC, Jan-2004; PackageReference: TLA09ZZA; PackageDescription: Thin Micro SMD, 9 Bump (Large), 0.5mm Pitch; RoHS: Y; PinCount: 9; Code_JEDEC: MO-211-DD; ComponentLink1Description: Manufacturer URL; ComponentLink1URL: http://www.national.com/; ComponentLink2Description: LM4951 Datasheet; ComponentLink2URL: http://www.national.com/ds/LM/LM4951.pdf; ComponentLink3Description: LM4951 Web Page; ComponentLink3URL: http://www.national.com/pf/LM/LM4951.html; ComponentLink4Description: TLA09ZZA Package Page; ComponentLink4URL: http://www.national.com/packaging/folders/tla09zza.html
footprint TLA09ZZA (Micro SMD, 9-Leads, Body 1.47x1.47mm, Pitch 0.5mm, NSC Recommended)
pins: A1 VIN (in), A2 VO- (out), A3 CCHG, B1 GND (power), B2 GND (power), B3 VDD (power), C1 BYPASS, C2 VO+ (out), C3 ~{SD} (in)

## LM4952TS
designator U?
3.1W Stereo-SE Audio Power Amplifier with DC Volume Control, 9-pin TO-263; PartNumber: LM4952TS; Manufacturer: National Semiconductor; PackageTopMarking: NSUZXYTTE#*LM4952TS; PowerWise: N; CompType: Audio IC; High-Reliability: Y; DatasheetVersion: Aug-2004; PackageVersion: revB, Dec-2004; PackageReference: TS9A; PackageDescription: TO-263, Molded, 9 Lead, Surface Mount; RoHS: N; PinCount: 9; ComponentLink1Description: Manufacturer URL; ComponentLink1URL: http://www.national.com/; ComponentLink2Description: LM4952 Datasheet; ComponentLink2URL: http://www.national.com/ds/LM/LM4952.pdf; ComponentLink3Description: LM4952 Web Page; ComponentLink3URL: http://www.national.com/pf/LM/LM4952.html; ComponentLink4Description: TS9A Package Page; ComponentLink4URL: http://www.national.com/packaging/folders/ts9a.html
footprint TS9A_N (D2-PAK, 10-Leads, Body 8.7x10.2mm, Pitch 0.97mm, Lead Span 14.1mm, IPC Medium Density)
footprint TS9A_L (D2-PAK, 10-Leads, Body 8.7x10.2mm, Pitch 0.97mm, Lead Span 14.1mm, IPC High Density)
footprint TS9A_M (D2-PAK, 10-Leads, Body 8.7x10.2mm, Pitch 0.97mm, Lead Span 14.1mm, IPC Low Density)
pins: 1 DC VOL (in), 2 -VINA (in), 3 ~{SD} (in), 4 VOUTA (out), 5 GND (power), 6 VDD (power), 7 VOUTB (out), 8 -VINB (in), 9 BYPASS, 10 DAP (power)

## LM4952TS/NOPB
designator U?
3.1W Stereo-SE Audio Power Amplifier with DC Volume Control, 9-pin TO-263, Pb-Free; PartNumber: LM4952TS/NOPB; Manufacturer: National Semiconductor; PackageTopMarking: NSUZXYTTE#*LM4952TS; PowerWise: N; CompType: Audio IC; High-Reliability: Y; DatasheetVersion: Aug-2004; PackageVersion: revB, Dec-2004; PackageReference: TS9A; PackageDescription: TO-263, Molded, 9 Lead, Surface Mount; RoHS: Y; PinCount: 9; ComponentLink1Description: Manufacturer URL; ComponentLink1URL: http://www.national.com/; ComponentLink2Description: LM4952 Datasheet; ComponentLink2URL: http://www.national.com/ds/LM/LM4952.pdf; ComponentLink3Description: LM4952 Web Page; ComponentLink3URL: http://www.national.com/pf/LM/LM4952.html; ComponentLink4Description: TS9A Package Page; ComponentLink4URL: http://www.national.com/packaging/folders/ts9a.html
footprint TS9A_N (D2-PAK, 10-Leads, Body 8.7x10.2mm, Pitch 0.97mm, Lead Span 14.1mm, IPC Medium Density)
footprint TS9A_L (D2-PAK, 10-Leads, Body 8.7x10.2mm, Pitch 0.97mm, Lead Span 14.1mm, IPC High Density)
footprint TS9A_M (D2-PAK, 10-Leads, Body 8.7x10.2mm, Pitch 0.97mm, Lead Span 14.1mm, IPC Low Density)
pins: 1 DC VOL (in), 2 -VINA (in), 3 ~{SD} (in), 4 VOUTA (out), 5 GND (power), 6 VDD (power), 7 VOUTB (out), 8 -VINB (in), 9 BYPASS, 10 DAP (power)

## LM4952TSX
designator U?
3.1W Stereo-SE Audio Power Amplifier with DC Volume Control, 9-pin TO-263; PartNumber: LM4952TSX; Manufacturer: National Semiconductor; PackageTopMarking: NSUZXYTTE#*LM4952TS; PowerWise: N; CompType: Audio IC; High-Reliability: Y; DatasheetVersion: Aug-2004; PackageVersion: revB, Dec-2004; PackageReference: TS9A; PackageDescription: TO-263, Molded, 9 Lead, Surface Mount; RoHS: N; PinCount: 9; ComponentLink1Description: Manufacturer URL; ComponentLink1URL: http://www.national.com/; ComponentLink2Description: LM4952 Datasheet; ComponentLink2URL: http://www.national.com/ds/LM/LM4952.pdf; ComponentLink3Description: LM4952 Web Page; ComponentLink3URL: http://www.national.com/pf/LM/LM4952.html; ComponentLink4Description: TS9A Package Page; ComponentLink4URL: http://www.national.com/packaging/folders/ts9a.html
footprint TS9A_N (D2-PAK, 10-Leads, Body 8.7x10.2mm, Pitch 0.97mm, Lead Span 14.1mm, IPC Medium Density)
footprint TS9A_L (D2-PAK, 10-Leads, Body 8.7x10.2mm, Pitch 0.97mm, Lead Span 14.1mm, IPC High Density)
footprint TS9A_M (D2-PAK, 10-Leads, Body 8.7x10.2mm, Pitch 0.97mm, Lead Span 14.1mm, IPC Low Density)
pins: 1 DC VOL (in), 2 -VINA (in), 3 ~{SD} (in), 4 VOUTA (out), 5 GND (power), 6 VDD (power), 7 VOUTB (out), 8 -VINB (in), 9 BYPASS, 10 DAP (power)

## LM4953SD
designator U?
Ground-Referenced, Ultra Low Noise, Ceramic Speaker Driver, 15-pin LLP; PartNumber: LM4953SD; Manufacturer: National Semiconductor; PackageTopMarking: ZXYTTE#*L4953; PowerWise: N; CompType: Audio IC; High-Reliability: Y; DatasheetVersion: Feb-2006; PackageVersion: revA, Jun-2003; PackageReference: SDA14A; PackageDescription: LLP, Plastic, Dual, 4 x 3 x 0.8mm Body, 14 Lead, 0.5mm Pitch, No Pullback; RoHS: N; PinCount: 14; ComponentLink1Description: Manufacturer URL; ComponentLink1URL: http://www.national.com/; ComponentLink2Description: LM4953 Datasheet; ComponentLink2URL: http://www.national.com/ds/LM/LM4953.pdf; ComponentLink3Description: LM4953 Web Page; ComponentLink3URL: http://www.national.com/pf/LM/LM4953.html; ComponentLink4Description: SDA14A Package Page; ComponentLink4URL: http://www.national.com/packaging/folders/sda14a.html
footprint SDA14A (SON, 14-Leads, Body 4x3mm, Pitch 0.5mm, NSC Recommended)
pins: 1 SD (in), 2 CPVDD (power), 3 CCP+, 4 PGND (power), 5 CCP-, 6 VCP_OUT (out), 7 NC, 8 AVSS (power), 9 OUT B (out), 10 AVDD (power), 11 OUT A (out), 12 NC, 13 VIN (in), 14 SGND (power), 15 DAP (power)

## LM4953SD/NOPB
designator U?
Ground-Referenced, Ultra Low Noise, Ceramic Speaker Driver, 14-pin LLP, Pb-Free; PartNumber: LM4953SD/NOPB; Manufacturer: National Semiconductor; PackageTopMarking: ZXYTTE#*L4953; PowerWise: N; CompType: Audio IC; High-Reliability: Y; DatasheetVersion: Feb-2006; PackageVersion: revA, Jun-2003; PackageReference: SDA14A; PackageDescription: LLP, Plastic, Dual, 4 x 3 x 0.8mm Body, 14 Lead, 0.5mm Pitch, No Pullback; RoHS: Y; PinCount: 14; ComponentLink1Description: Manufacturer URL; ComponentLink1URL: http://www.national.com/; ComponentLink2Description: LM4953 Datasheet; ComponentLink2URL: http://www.national.com/ds/LM/LM4953.pdf; ComponentLink3Description: LM4953 Web Page; ComponentLink3URL: http://www.national.com/pf/LM/LM4953.html; ComponentLink4Description: SDA14A Package Page; ComponentLink4URL: http://www.national.com/packaging/folders/sda14a.html
footprint SDA14A (SON, 14-Leads, Body 4x3mm, Pitch 0.5mm, NSC Recommended)
pins: 1 SD (in), 2 CPVDD (power), 3 CCP+, 4 PGND (power), 5 CCP-, 6 VCP_OUT (out), 7 NC, 8 AVSS (power), 9 OUT B (out), 10 AVDD (power), 11 OUT A (out), 12 NC, 13 VIN (in), 14 SGND (power), 15 DAP (power)

## LM4953SDX
designator U?
Ground-Referenced, Ultra Low Noise, Ceramic Speaker Driver, 14-pin LLP; PartNumber: LM4953SDX; Manufacturer: National Semiconductor; PackageTopMarking: ZXYTTE#*L4953; PowerWise: N; CompType: Audio IC; High-Reliability: Y; DatasheetVersion: Feb-2006; PackageVersion: revA, Jun-2003; PackageReference: SDA14A; PackageDescription: LLP, Plastic, Dual, 4 x 3 x 0.8mm Body, 14 Lead, 0.5mm Pitch, No Pullback; RoHS: N; PinCount: 14; ComponentLink1Description: Manufacturer URL; ComponentLink1URL: http://www.national.com/; ComponentLink2Description: LM4953 Datasheet; ComponentLink2URL: http://www.national.com/ds/LM/LM4953.pdf; ComponentLink3Description: LM4953 Web Page; ComponentLink3URL: http://www.national.com/pf/LM/LM4953.html; ComponentLink4Description: SDA14A Package Page; ComponentLink4URL: http://www.national.com/packaging/folders/sda14a.html
footprint SDA14A (SON, 14-Leads, Body 4x3mm, Pitch 0.5mm, NSC Recommended)
pins: 1 SD (in), 2 CPVDD (power), 3 CCP+, 4 PGND (power), 5 CCP-, 6 VCP_OUT (out), 7 NC, 8 AVSS (power), 9 OUT B (out), 10 AVDD (power), 11 OUT A (out), 12 NC, 13 VIN (in), 14 SGND (power), 15 DAP (power)

## LM4954TL
designator U?
High Voltage 3 Watt Audio Power Amplifier, 9-pin Micro SMD; PartNumber: LM4954TL; Manufacturer: National Semiconductor; PackageTopMarking: XVG*I F2; PowerWise: N; CompType: Audio IC; High-Reliability: Y; DatasheetVersion: Jun-2005; PackageVersion: revC, Jan-2004; PackageReference: TLA0911A; PackageDescription: Thin Micro SMD, 9 Bump (Large), 0.5mm Pitch; RoHS: Y; PinCount: 9; Code_JEDEC: MO-211-DD; ComponentLink1Description: Manufacturer URL; ComponentLink1URL: http://www.national.com/; ComponentLink2Description: LM4954 Datasheet; ComponentLink2URL: http://www.national.com/ds/LM/LM4954.pdf; ComponentLink3Description: LM4954 Web Page; ComponentLink3URL: http://www.national.com/pf/LM/LM4954.html; ComponentLink4Description: TLA0911A Package Page; ComponentLink4URL: http://www.national.com/packaging/folders/tla0911a.html
footprint TLA0911A (Micro SMD, 9-Leads, Body 1.49x1.49mm, Pitch 0.5mm, NSC Recommended)
pins: A1 -IN (in), A2 VO1 (out), A3 +IN (in), B1 GND (power), B2 GND (power), B3 VDD (power), C1 BYPASS, C2 VO2 (out), C3 ~{SD} (in)

## LM4954TL/NOPB
designator U?
High Voltage 3 Watt Audio Power Amplifier, 9-pin Micro SMD, Pb-Free; PartNumber: LM4954TL/NOPB; Manufacturer: National Semiconductor; PackageTopMarking: XVG*I F2; PowerWise: N; CompType: Audio IC; High-Reliability: Y; DatasheetVersion: Jun-2005; PackageVersion: revC, Jan-2004; PackageReference: TLA0911A; PackageDescription: Thin Micro SMD, 9 Bump (Large), 0.5mm Pitch; RoHS: Y; PinCount: 9; Code_JEDEC: MO-211-DD; ComponentLink1Description: Manufacturer URL; ComponentLink1URL: http://www.national.com/; ComponentLink2Description: LM4954 Datasheet; ComponentLink2URL: http://www.national.com/ds/LM/LM4954.pdf; ComponentLink3Description: LM4954 Web Page; ComponentLink3URL: http://www.national.com/pf/LM/LM4954.html; ComponentLink4Description: TLA0911A Package Page; ComponentLink4URL: http://www.national.com/packaging/folders/tla0911a.html
footprint TLA0911A (Micro SMD, 9-Leads, Body 1.49x1.49mm, Pitch 0.5mm, NSC Recommended)
pins: A1 -IN (in), A2 VO1 (out), A3 +IN (in), B1 GND (power), B2 GND (power), B3 VDD (power), C1 BYPASS, C2 VO2 (out), C3 ~{SD} (in)

## LM4954TLX/NOPB
designator U?
High Voltage 3 Watt Audio Power Amplifier, 9-pin Micro SMD, Pb-Free; PartNumber: LM4954TLX/NOPB; Manufacturer: National Semiconductor; PackageTopMarking: XVG*I F2; PowerWise: N; CompType: Audio IC; High-Reliability: Y; DatasheetVersion: Jun-2005; PackageVersion: revC, Jan-2004; PackageReference: TLA0911A; PackageDescription: Thin Micro SMD, 9 Bump (Large), 0.5mm Pitch; RoHS: Y; PinCount: 9; Code_JEDEC: MO-211-DD; ComponentLink1Description: Manufacturer URL; ComponentLink1URL: http://www.national.com/; ComponentLink2Description: LM4954 Datasheet; ComponentLink2URL: http://www.national.com/ds/LM/LM4954.pdf; ComponentLink3Description: LM4954 Web Page; ComponentLink3URL: http://www.national.com/pf/LM/LM4954.html; ComponentLink4Description: TLA0911A Package Page; ComponentLink4URL: http://www.national.com/packaging/folders/tla0911a.html
footprint TLA0911A (Micro SMD, 9-Leads, Body 1.49x1.49mm, Pitch 0.5mm, NSC Recommended)
pins: A1 -IN (in), A2 VO1 (out), A3 +IN (in), B1 GND (power), B2 GND (power), B3 VDD (power), C1 BYPASS, C2 VO2 (out), C3 ~{SD} (in)

## LM4960SQ
designator U?
Piezoelectric Speaker Driver, 28-pin LLP; PartNumber: LM4960SQ; Manufacturer: National Semiconductor; PackageTopMarking: NS*UZXYTT*L4960SQ; PowerWise: N; CompType: Audio IC; High-Reliability: Y; DatasheetVersion: Apr-2005; PackageVersion: revB, Aug-2003; PackageReference: SQA28A; PackageDescription: LLP, Plastic, Quad, 5 x 5 x 0.8mm Body, 28 Lead, 0.5mm Pitch, No Pullback; RoHS: N; PinCount: 28; Code_JEDEC: MO-220-WHHD-3; ComponentLink1Description: Manufacturer URL; ComponentLink1URL: http://www.national.com/; ComponentLink2Description: LM4960 Datasheet; ComponentLink2URL: http://www.national.com/ds/LM/LM4960.pdf; ComponentLink3Description: LM4960 Web Page; ComponentLink3URL: http://www.national.com/pf/LM/LM4960.html; ComponentLink4Description: SQA28A Package Page; ComponentLink4URL: http://www.national.com/packaging/folders/sqa28a.html
footprint SQA28A (QFN, 29-Leads, Body 5x5mm, Pitch 0.5mm, NSC Recommended)
pins: 1 BYPASS, 2 VIN B (in), 3 NC, 4 VDD (power), 5 NC, 6 REG SD (in), 7 GND (power), 8 FB, 9 NC, 10 NC, 11 SW, 12 GND (power), 13 NC, 14 NC, 15 NC, 16 NC, 17 NC, 18 NC, 19 NC, 20 VIN A (in), 21 AMP SD (in), 22 NC, 23 VOUT A (out), 24 GND (power), 25 GND (power), 26 NC, 27 VAMP (power), 28 VOUT B (out), 29 DAP (power)

## LM4960SQ/NOPB
designator U?
Piezoelectric Speaker Driver, 28-pin LLP, Pb-Free; PartNumber: LM4960SQ/NOPB; Manufacturer: National Semiconductor; PackageTopMarking: NS*UZXYTT*L4960SQ; PowerWise: N; CompType: Audio IC; High-Reliability: Y; DatasheetVersion: Apr-2005; PackageVersion: revB, Aug-2003; PackageReference: SQA28A; PackageDescription: LLP, Plastic, Quad, 5 x 5 x 0.8mm Body, 28 Lead, 0.5mm Pitch, No Pullback; RoHS: Y; PinCount: 28; Code_JEDEC: MO-220-WHHD-3; ComponentLink1Description: Manufacturer URL; ComponentLink1URL: http://www.national.com/; ComponentLink2Description: LM4960 Datasheet; ComponentLink2URL: http://www.national.com/ds/LM/LM4960.pdf; ComponentLink3Description: LM4960 Web Page; ComponentLink3URL: http://www.national.com/pf/LM/LM4960.html; ComponentLink4Description: SQA28A Package Page; ComponentLink4URL: http://www.national.com/packaging/folders/sqa28a.html
footprint SQA28A (QFN, 29-Leads, Body 5x5mm, Pitch 0.5mm, NSC Recommended)
pins: 1 BYPASS, 2 VIN B (in), 3 NC, 4 VDD (power), 5 NC, 6 REG SD (in), 7 GND (power), 8 FB, 9 NC, 10 NC, 11 SW, 12 GND (power), 13 NC, 14 NC, 15 NC, 16 NC, 17 NC, 18 NC, 19 NC, 20 VIN A (in), 21 AMP SD (in), 22 NC, 23 VOUT A (out), 24 GND (power), 25 GND (power), 26 NC, 27 VAMP (power), 28 VOUT B (out), 29 DAP (power)

## LM4960SQX
designator U?
Piezoelectric Speaker Driver, 28-pin LLP; PartNumber: LM4960SQX; Manufacturer: National Semiconductor; PackageTopMarking: NS*UZXYTT*L4960SQ; PowerWise: N; CompType: Audio IC; High-Reliability: Y; DatasheetVersion: Apr-2005; PackageVersion: revB, Aug-2003; PackageReference: SQA28A; PackageDescription: LLP, Plastic, Quad, 5 x 5 x 0.8mm Body, 28 Lead, 0.5mm Pitch, No Pullback; RoHS: N; PinCount: 28; Code_JEDEC: MO-220-WHHD-3; ComponentLink1Description: Manufacturer URL; ComponentLink1URL: http://www.national.com/; ComponentLink2Description: LM4960 Datasheet; ComponentLink2URL: http://www.national.com/ds/LM/LM4960.pdf; ComponentLink3Description: LM4960 Web Page; ComponentLink3URL: http://www.national.com/pf/LM/LM4960.html; ComponentLink4Description: SQA28A Package Page; ComponentLink4URL: http://www.national.com/packaging/folders/sqa28a.html
footprint SQA28A (QFN, 29-Leads, Body 5x5mm, Pitch 0.5mm, NSC Recommended)
pins: 1 BYPASS, 2 VIN B (in), 3 NC, 4 VDD (power), 5 NC, 6 REG SD (in), 7 GND (power), 8 FB, 9 NC, 10 NC, 11 SW, 12 GND (power), 13 NC, 14 NC, 15 NC, 16 NC, 17 NC, 18 NC, 19 NC, 20 VIN A (in), 21 AMP SD (in), 22 NC, 23 VOUT A (out), 24 GND (power), 25 GND (power), 26 NC, 27 VAMP (power), 28 VOUT B (out), 29 DAP (power)

## LM4961LQ
designator U?
Ceramic Speaker Driver, 29-pin LLP; PartNumber: LM4961LQ; Manufacturer: National Semiconductor; PackageTopMarking: NS*UZXYTT*L4961LQ; PowerWise: N; CompType: Audio IC; High-Reliability: Y; DatasheetVersion: Dec-2006; PackageVersion: revB, Jul-2001; PackageReference: LQA28A; PackageDescription: LLP, Plastic, Quad, 5 x 5 x 0.75mm Body, 28 Lead, 0.5mm Pitch; RoHS: N; PinCount: 28; Code_JEDEC: MO-220-WHHD-1; ComponentLink1Description: Manufacturer URL; ComponentLink1URL: http://www.national.com/; ComponentLink2Description: LM4961 Datasheet; ComponentLink2URL: http://www.national.com/ds/LM/LM4961.pdf; ComponentLink3Description: LM4961 Web Page; ComponentLink3URL: http://www.national.com/pf/LM/LM4961.html; ComponentLink4Description: LQA28A Package Page; ComponentLink4URL: http://www.national.com/packaging/folders/lqa28a.html
footprint LQA28A (PQFN, 28-Leads, Body 5x5mm, Pitch 0.5mm, Thermal Pad 3.3x3.3mm, NSC Recommended)
pins: 1 SW-OUT (out), 2 BYPASS, 3 SD 2 (in), 4 VDD (power), 5 NC, 6 SD 1 (in), 7 GND (power), 8 FB, 9 NC, 10 NC, 11 SW, 12 GND (power), 13 NC, 14 NC, 15 NC, 16 NC, 17 CCHG, 18 VIN (in), 19 BAND-SW (in), 20 BW1, 21 BW2, 22 NC, 23 VOUT- (out), 24 GND (power), 25 NC, 26 VAMP (power), 27 VOUT+ (out), 28 GND (power), 29 DAP (power)

## LM4961LQ/NOPB
designator U?
Ceramic Speaker Driver, 28-pin LLP, Pb-Free; PartNumber: LM4961LQ/NOPB; Manufacturer: National Semiconductor; PackageTopMarking: NS*UZXYTT*L4961LQ; PowerWise: N; CompType: Audio IC; High-Reliability: Y; DatasheetVersion: Dec-2006; PackageVersion: revB, Jul-2001; PackageReference: LQA28A; PackageDescription: LLP, Plastic, Quad, 5 x 5 x 0.75mm Body, 28 Lead, 0.5mm Pitch; RoHS: Y; PinCount: 28; Code_JEDEC: MO-220-WHHD-1; ComponentLink1Description: Manufacturer URL; ComponentLink1URL: http://www.national.com/; ComponentLink2Description: LM4961 Datasheet; ComponentLink2URL: http://www.national.com/ds/LM/LM4961.pdf; ComponentLink3Description: LM4961 Web Page; ComponentLink3URL: http://www.national.com/pf/LM/LM4961.html; ComponentLink4Description: LQA28A Package Page; ComponentLink4URL: http://www.national.com/packaging/folders/lqa28a.html
footprint LQA28A (PQFN, 28-Leads, Body 5x5mm, Pitch 0.5mm, Thermal Pad 3.3x3.3mm, NSC Recommended)
pins: 1 SW-OUT (out), 2 BYPASS, 3 SD 2 (in), 4 VDD (power), 5 NC, 6 SD 1 (in), 7 GND (power), 8 FB, 9 NC, 10 NC, 11 SW, 12 GND (power), 13 NC, 14 NC, 15 NC, 16 NC, 17 CCHG, 18 VIN (in), 19 BAND-SW (in), 20 BW1, 21 BW2, 22 NC, 23 VOUT- (out), 24 GND (power), 25 NC, 26 VAMP (power), 27 VOUT+ (out), 28 GND (power), 29 DAP (power)